# EAGLE library part LCD_2X16_CON (library lcd_2x16_led_backlight)
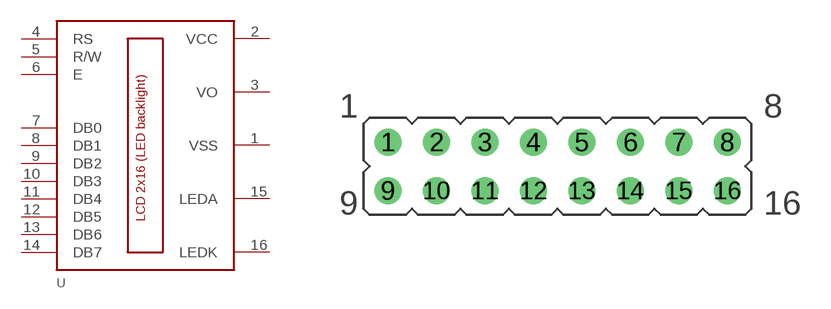
[diagram p2: symbol with the pads of 2X8_DIP; footprint 2X8_DIP]

Designator prefix -

## LCD_2X16_CON  [2X8_DIP]
1  VSS  pwr
2  VCC  pwr
3  VO  in
4  RS  in
5  R/W  in
6  E  in
7  DB0
8  DB1
9  DB2
10  DB3
11  DB4
12  DB5
13  DB6
14  DB7
15  LEDA  pas
16  LEDK  pas

## Footprint 2X8_DIP (pad centres in mm)
drill 0.9: 1 -8.89,1.27; 2 -6.35,1.27; 3 -3.81,1.27; 4 -1.27,1.27; 5 1.27,1.27; 6 3.81,1.27; 7 6.35,1.27; 8 8.89,1.27; 9 -8.89,-1.27; 10 -6.35,-1.27; 11 -3.81,-1.27; 12 -1.27,-1.27; 13 1.27,-1.27; 14 3.81,-1.27; 15 6.35,-1.27; 16 8.89,-1.27